# Altium footprint library PcbLib1.PcbLib: 5 footprints
Each footprint in its own frame and in the unit in brackets; x right, y up, seen from the top. Pads: shape width x height; smd on the part's side, far side on the other; paste and mask are expansions set on the pad; w line width, h text height; cw(c..) or ccw(c..) is an arc to the next point about the centre after c.
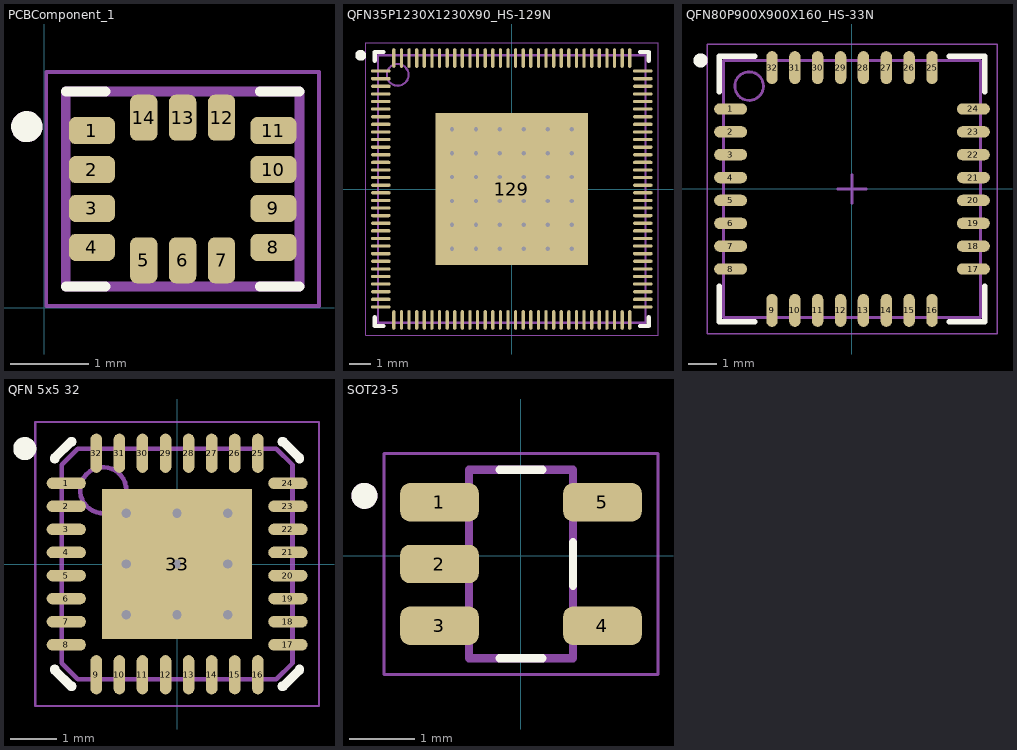
[diagram p0: the footprints below, top view; thin cyan lines are the x and y axes]

## PCBComponent_1 [mm]
pads (14):
  rrect50% 0.59x0.35 smd mask+0: 1(0.613,2.274) 2(0.613,1.774) 3(0.613,1.274) 4(0.613,0.774) 8(2.943,0.774) 9(2.943,1.274) 10(2.943,1.774) 11(2.943,2.274)
  rrect50% 0.35x0.59 smd mask+0: 5(1.278,0.609) 6(1.778,0.609) 7(2.278,0.609) 12(2.278,2.439) 13(1.778,2.439) 14(1.278,2.439)
Top Overlay:
  circle w0.2: c-0.222,2.324 r0.1
  lines w0.127: 0.278,0.274 0.788,0.274 ; 0.278,2.774 0.788,2.774 ; 2.768,0.274 3.278,0.274 ; 2.768,2.774 3.278,2.774
Top Solder:
  drawing of 14 lines, arcs and shapes, not listed
Mechanical 13:
  circle w0.2: c-0.222,2.324 r0.1
  lines w0.127: 0.278,0.274 0.278,2.774 3.278,2.774 3.278,0.274 0.278,0.274
Mechanical 15:
  lines w0.05: 0.028,0.024 0.028,3.024 3.528,3.024 3.528,0.024 0.028,0.024
3D body "step_temp.STEP": height 0.97, standoff 0, extent 0.278,0.274 3.278,2.774

## QFN35P1230X1230X90_HS-129N [mm] "QFN, 128-Leads, Body 12.30x12.30mm, Pitch 0.35mm, Thermal Pad 7.00x7.00mm, IPC Medium Density"
height 0.9
pads (129):
  oval 0.9x0.15 smd: 1(-6.025,5.425) 2(-6.025,5.075) 3(-6.025,4.725) 4(-6.025,4.375) 5(-6.025,4.025) 6(-6.025,3.675) 7(-6.025,3.325) 8(-6.025,2.975) 9(-6.025,2.625) 10(-6.025,2.275) 11(-6.025,1.925) 12(-6.025,1.575) 13(-6.025,1.225) 14(-6.025,0.875) 15(-6.025,0.525) 16(-6.025,0.175) 17(-6.025,-0.175) 18(-6.025,-0.525) 19(-6.025,-0.875) 20(-6.025,-1.225) 21(-6.025,-1.575) 22(-6.025,-1.925) 23(-6.025,-2.275) 24(-6.025,-2.625) 25(-6.025,-2.975) 26(-6.025,-3.325) 27(-6.025,-3.675) 28(-6.025,-4.025) 29(-6.025,-4.375) 30(-6.025,-4.725) 31(-6.025,-5.075) 32(-6.025,-5.425) 65(6.025,-5.425) 66(6.025,-5.075) 67(6.025,-4.725) 68(6.025,-4.375) 69(6.025,-4.025) 70(6.025,-3.675) 71(6.025,-3.325) 72(6.025,-2.975) 73(6.025,-2.625) 74(6.025,-2.275) 75(6.025,-1.925) 76(6.025,-1.575) 77(6.025,-1.225) 78(6.025,-0.875) 79(6.025,-0.525) 80(6.025,-0.175) 81(6.025,0.175) 82(6.025,0.525) 83(6.025,0.875) 84(6.025,1.225) 85(6.025,1.575) 86(6.025,1.925) 87(6.025,2.275) 88(6.025,2.625) 89(6.025,2.975) 90(6.025,3.325) 91(6.025,3.675) 92(6.025,4.025) 93(6.025,4.375) 94(6.025,4.725) 95(6.025,5.075) 96(6.025,5.425)
  oval 0.15x0.9 smd: 33(-5.425,-6.025) 34(-5.075,-6.025) 35(-4.725,-6.025) 36(-4.375,-6.025) 37(-4.025,-6.025) 38(-3.675,-6.025) 39(-3.325,-6.025) 40(-2.975,-6.025) 41(-2.625,-6.025) 42(-2.275,-6.025) 43(-1.925,-6.025) 44(-1.575,-6.025) 45(-1.225,-6.025) 46(-0.875,-6.025) 47(-0.525,-6.025) 48(-0.175,-6.025) 49(0.175,-6.025) 50(0.525,-6.025) 51(0.875,-6.025) 52(1.225,-6.025) 53(1.575,-6.025) 54(1.925,-6.025) 55(2.275,-6.025) 56(2.625,-6.025) 57(2.975,-6.025) 58(3.325,-6.025) 59(3.675,-6.025) 60(4.025,-6.025) 61(4.375,-6.025) 62(4.725,-6.025) 63(5.075,-6.025) 64(5.425,-6.025) 97(5.425,6.025) 98(5.075,6.025) 99(4.725,6.025) 100(4.375,6.025) 101(4.025,6.025) 102(3.675,6.025) 103(3.325,6.025) 104(2.975,6.025) 105(2.625,6.025) 106(2.275,6.025) 107(1.925,6.025) 108(1.575,6.025) 109(1.225,6.025) 110(0.875,6.025) 111(0.525,6.025) 112(0.175,6.025) 113(-0.175,6.025) 114(-0.525,6.025) 115(-0.875,6.025) 116(-1.225,6.025) 117(-1.575,6.025) 118(-1.925,6.025) 119(-2.275,6.025) 120(-2.625,6.025) 121(-2.975,6.025) 122(-3.325,6.025) 123(-3.675,6.025) 124(-4.025,6.025) 125(-4.375,6.025) 126(-4.725,6.025) 127(-5.075,6.025) 128(-5.425,6.025)
  rect 7x7 smd: 129(0,0)
via -2.75,2.75 diameter 0.5 hole 0.2
via -1.65,2.75 diameter 0.5 hole 0.2
via -0.55,2.75 diameter 0.5 hole 0.2
via 0.55,2.75 diameter 0.5 hole 0.2
via 1.65,2.75 diameter 0.5 hole 0.2
via 2.75,2.75 diameter 0.5 hole 0.2
via -2.75,1.65 diameter 0.5 hole 0.2
via -1.65,1.65 diameter 0.5 hole 0.2
via -0.55,1.65 diameter 0.5 hole 0.2
via 0.55,1.65 diameter 0.5 hole 0.2
via 1.65,1.65 diameter 0.5 hole 0.2
via 2.75,1.65 diameter 0.5 hole 0.2
via -2.75,0.55 diameter 0.5 hole 0.2
via -1.65,0.55 diameter 0.5 hole 0.2
via -0.55,0.55 diameter 0.5 hole 0.2
via 0.55,0.55 diameter 0.5 hole 0.2
via 1.65,0.55 diameter 0.5 hole 0.2
via 2.75,0.55 diameter 0.5 hole 0.2
via -2.75,-0.55 diameter 0.5 hole 0.2
via -1.65,-0.55 diameter 0.5 hole 0.2
via -0.55,-0.55 diameter 0.5 hole 0.2
via 0.55,-0.55 diameter 0.5 hole 0.2
via 1.65,-0.55 diameter 0.5 hole 0.2
via 2.75,-0.55 diameter 0.5 hole 0.2
via -2.75,-1.65 diameter 0.5 hole 0.2
via -1.65,-1.65 diameter 0.5 hole 0.2
via -0.55,-1.65 diameter 0.5 hole 0.2
via 0.55,-1.65 diameter 0.5 hole 0.2
via 1.65,-1.65 diameter 0.5 hole 0.2
via 2.75,-1.65 diameter 0.5 hole 0.2
via -2.75,-2.75 diameter 0.5 hole 0.2
via -1.65,-2.75 diameter 0.5 hole 0.2
via -0.55,-2.75 diameter 0.5 hole 0.2
via 0.55,-2.75 diameter 0.5 hole 0.2
via 1.65,-2.75 diameter 0.5 hole 0.2
via 2.75,-2.75 diameter 0.5 hole 0.2
Top Overlay:
  circle w0.25: c-6.95,6.15 r0.125
  lines w0.2: -6.3,-5.9 -6.3,-6.3 -5.9,-6.3 ; -6.3,5.9 -6.3,6.3 -5.9,6.3 ; 5.9,-6.3 6.3,-6.3 6.3,-5.9 ; 5.9,6.3 6.3,6.3 6.3,5.9
Mechanical 13:
  circle w0.1: c-5.25,5.25 r0.5
  lines w0.1: -6.15,-6.15 -6.15,6.15 6.15,6.15 6.15,-6.15 -6.15,-6.15
Mechanical 15:
  lines w0.05: -6.725,-6.725 -6.725,6.725 6.725,6.725 6.725,-6.725 -6.725,-6.725
  lines w0.1: -0.5,0 0.5,0 ; 0,-0.5 0,0.5
3D body: height 0.9, standoff 0.05, extent -6.15,-6.15 6.15,6.15

## QFN80P900X900X160_HS-33N [mm] "QFN, 32-Leads, Body 9.00x9.00mm, Pitch 0.80mm, Thermal Pad 1.20x1.20mm, IPC Medium Density"
height 1.6
pads (32):
  oval 1.15x0.4 smd: 1(-4.25,2.8) 2(-4.25,2) 3(-4.25,1.2) 4(-4.25,0.4) 5(-4.25,-0.4) 6(-4.25,-1.2) 7(-4.25,-2) 8(-4.25,-2.8) 17(4.25,-2.8) 18(4.25,-2) 19(4.25,-1.2) 20(4.25,-0.4) 21(4.25,0.4) 22(4.25,1.2) 23(4.25,2) 24(4.25,2.8)
  oval 0.4x1.15 smd: 9(-2.8,-4.25) 10(-2,-4.25) 11(-1.2,-4.25) 12(-0.4,-4.25) 13(0.4,-4.25) 14(1.2,-4.25) 15(2,-4.25) 16(2.8,-4.25) 25(2.8,4.25) 26(2,4.25) 27(1.2,4.25) 28(0.4,4.25) 29(-0.4,4.25) 30(-1.2,4.25) 31(-2,4.25) 32(-2.8,4.25)
Top Overlay:
  circle w0.25: c-5.3,4.5 r0.125
  lines w0.2: -4.65,-3.4 -4.65,-4.65 -3.4,-4.65 ; -4.65,3.4 -4.65,4.65 -3.4,4.65 ; 3.4,-4.65 4.65,-4.65 4.65,-3.4 ; 3.4,4.65 4.65,4.65 4.65,3.4
Mechanical 13:
  circle w0.1: c-3.6,3.6 r0.5
  lines w0.1: -4.5,-4.5 4.5,-4.5 4.5,4.5 -4.5,4.5 -4.5,-4.5
Mechanical 15:
  lines w0.05: -5.075,-5.075 5.075,-5.075 5.075,5.075 -5.075,5.075 -5.075,-5.075
  lines w0.1: -0.5,0 0.5,0 ; 0,-0.5 0,0.5
3D body: height 1.6, standoff 0.05, extent -4.5,-4.5 4.5,4.5

## QFN 5x5 32 [mm] "QFN, 32-Leads, Body 5.00x5.00mm, Pitch 0.50mm, Thermal Pad 3.25x3.25mm, IPC Medium Density"
height 0.8
pads (33):
  oval 0.85x0.25 smd: 1(-2.4,1.75) 2(-2.4,1.25) 3(-2.4,0.75) 4(-2.4,0.25) 5(-2.4,-0.25) 6(-2.4,-0.75) 7(-2.4,-1.25) 8(-2.4,-1.75) 17(2.4,-1.75) 18(2.4,-1.25) 19(2.4,-0.75) 20(2.4,-0.25) 21(2.4,0.25) 22(2.4,0.75) 23(2.4,1.25) 24(2.4,1.75)
  oval 0.25x0.85 smd: 9(-1.75,-2.4) 10(-1.25,-2.4) 11(-0.75,-2.4) 12(-0.25,-2.4) 13(0.25,-2.4) 14(0.75,-2.4) 15(1.25,-2.4) 16(1.75,-2.4) 25(1.75,2.4) 26(1.25,2.4) 27(0.75,2.4) 28(0.25,2.4) 29(-0.25,2.4) 30(-0.75,2.4) 31(-1.25,2.4) 32(-1.75,2.4)
  rect 3.25x3.25 smd: 33(0,0)
via 1.1,-1.1 diameter 0.5 hole 0.2
via 0,-1.1 diameter 0.5 hole 0.2
via -1.1,-1.1 diameter 0.5 hole 0.2
via 1.1,0 diameter 0.5 hole 0.2
via 0,0 diameter 0.5 hole 0.2
via -1.1,0 diameter 0.5 hole 0.2
via 1.1,1.1 diameter 0.5 hole 0.2
via 0,1.1 diameter 0.5 hole 0.2
via -1.1,1.1 diameter 0.5 hole 0.2
Top Overlay:
  circle w0.25: c-3.3,2.5 r0.125
  lines w0.2: -2.65,-2.275 -2.65,-2.3 -2.3,-2.65 -2.275,-2.65 ; -2.65,2.275 -2.65,2.3 -2.3,2.65 -2.275,2.65 ; 2.275,-2.65 2.3,-2.65 2.65,-2.3 2.65,-2.275 ; 2.275,2.65 2.3,2.65 2.65,2.3 2.65,2.275
Mechanical 13:
  circle w0.1: c-1.6,1.6 r0.5
  lines w0.1: -2.5,-2.15 -2.5,2.15 -2.15,2.5 2.15,2.5 2.5,2.15 2.5,-2.15 2.15,-2.5 -2.15,-2.5 -2.5,-2.15
Mechanical 15:
  lines w0.05: -3.075,-3.075 3.075,-3.075 3.075,3.075 -3.075,3.075 -3.075,-3.075
  lines w0.1: -0.5,0 0.5,0 ; 0,-0.5 0,0.5
3D body: height 0.8, standoff 0, extent -2.5,-2.5 2.5,2.5

## SOT23-5 [mm]
pads (5):
  rrect50% 1.21x0.59 smd paste+0 mask+0.102: 1(-1.255,0.823) 2(-1.255,-0.127) 3(-1.255,-1.077) 4(1.255,-1.077) 5(1.255,0.823)
Top Overlay:
  circle w0.2: c-2.41,0.923 r0.1
  lines w0.127: -0.33,-1.577 0.33,-1.577 ; -0.33,1.323 0.33,1.323 ; 0.8,-0.462 0.8,0.208
Mechanical 13:
  circle w0.2: c-2.41,0.923 r0.1
  lines w0.127: -0.8,-1.577 -0.8,1.323 0.8,1.323 0.8,-1.577 -0.8,-1.577
Mechanical 15:
  lines w0.05: -2.11,-1.827 2.11,-1.827 2.11,1.573 -2.11,1.573 -2.11,-1.827
3D body "step_temp.STEP": height 1.45, standoff 0, extent -1.4,-1.577 1.4,1.323